# Altium footprint library Inductor_SMD.PcbLib: 5 footprints
Each footprint in its own frame and in the unit in brackets; x right, y up, seen from the top. Pads: shape width x height; smd on the part's side, far side on the other; paste and mask are expansions set on the pad; w line width, h text height; cw(c..) or ccw(c..) is an arc to the next point about the centre after c.
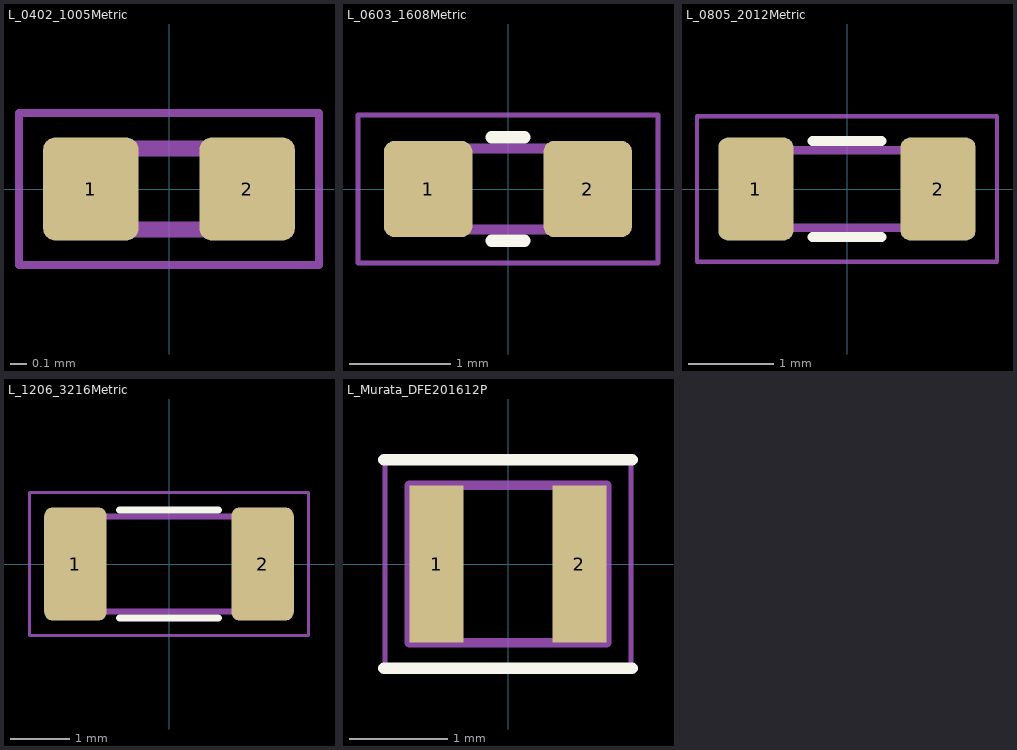
[diagram p0: the footprints below, top view; thin cyan lines are the x and y axes]

## L_0402_1005Metric [mm]
pads (2):
  rrect25% 0.59x0.64 smd: 1(-0.485,0) 2(0.485,0)
Mechanical 13:
  lines w0.1: -0.5,-0.25 0.5,-0.25 0.5,0.25 -0.5,0.25 -0.5,-0.25
Mechanical 15:
  lines w0.05: -0.93,-0.47 0.93,-0.47 0.93,0.47 -0.93,0.47 -0.93,-0.47
3D body "L_0402_1005Metric.step": height 0.5, standoff 0, extent -0.5,-0.25 0.5,0.25

## L_0603_1608Metric [mm]
pads (2):
  rrect25% 0.875x0.95 smd: 1(-0.787,0) 2(0.787,0)
Top Overlay:
  lines w0.12: -0.163,-0.51 0.163,-0.51 ; -0.163,0.51 0.163,0.51
Mechanical 13:
  lines w0.1: -0.8,-0.4 -0.8,0.4 0.8,0.4 0.8,-0.4 -0.8,-0.4
Mechanical 15:
  lines w0.05: -1.48,-0.73 -1.48,0.73 1.48,0.73 1.48,-0.73 -1.48,-0.73
3D body "L_0603_1608Metric.step": height 0.8, standoff 0, extent -0.8,-0.4 0.8,0.4

## L_0805_2012Metric [mm]
pads (2):
  rrect25% 0.875x1.2 smd: 1(-1.062,0) 2(1.062,0)
Top Overlay:
  lines w0.12: -0.4,-0.56 0.4,-0.56 ; -0.4,0.56 0.4,0.56
Mechanical 13:
  lines w0.1: -1,-0.45 -1,0.45 1,0.45 1,-0.45 -1,-0.45
Mechanical 15:
  lines w0.05: -1.75,-0.85 -1.75,0.85 1.75,0.85 1.75,-0.85 -1.75,-0.85
3D body "L_0805_2012Metric.step": height 1.25, standoff 0, extent -1,-0.625 1,0.625

## L_1206_3216Metric [mm]
pads (2):
  rrect25% 1.05x1.9 smd: 1(-1.575,0) 2(1.575,0)
Top Overlay:
  lines w0.12: -0.835,-0.91 0.835,-0.91 ; -0.835,0.91 0.835,0.91
Mechanical 13:
  lines w0.1: -1.6,-0.8 -1.6,0.8 1.6,0.8 1.6,-0.8 -1.6,-0.8
Mechanical 15:
  lines w0.05: -2.35,-1.2 -2.35,1.2 2.35,1.2 2.35,-1.2 -2.35,-1.2
3D body "L_1206_3216Metric.step": height 1.6, standoff 0, extent -1.6,-0.8 1.6,0.8

## L_Murata_DFE201612P [mm]
pads (2):
  rect 0.55x1.6 smd: 1(-0.725,0) 2(0.725,0)
Top Overlay:
  lines w0.12: -1.26,-1.06 1.26,-1.06 ; -1.26,1.06 1.26,1.06
Mechanical 13:
  lines w0.1: -1,-0.8 -1,0.8 1,0.8 1,-0.8 -1,-0.8
Mechanical 15:
  lines w0.05: -1.25,-1.05 1.25,-1.05 1.25,1.05 -1.25,1.05 -1.25,-1.05
3D body "DFE201612P v1.step": height 0.95, standoff 0, extent -1,-0.8 1,0.8